# EAGLE library part 750341751 (library Midcom Inc - EAGLE Lib V2-0)
Package Style: PQ2625 Mounting: THT Pins: 7 pins Bobbin: 070-6032 Best pinouts for production vary per application. Please contact Wurth Electronics Midcom, Inc. for assistance with your custom design. Website: Wurth Electronics Midcom <http://www.we-online.com/midcom> Contact us Wurth Electronics Midcom, Inc. 121 Airport Dr. Watertown, SD 57201 Phone: (605) 886-4385 Fax: (605) 886-4486 E-Mail: midcom@we-online.com
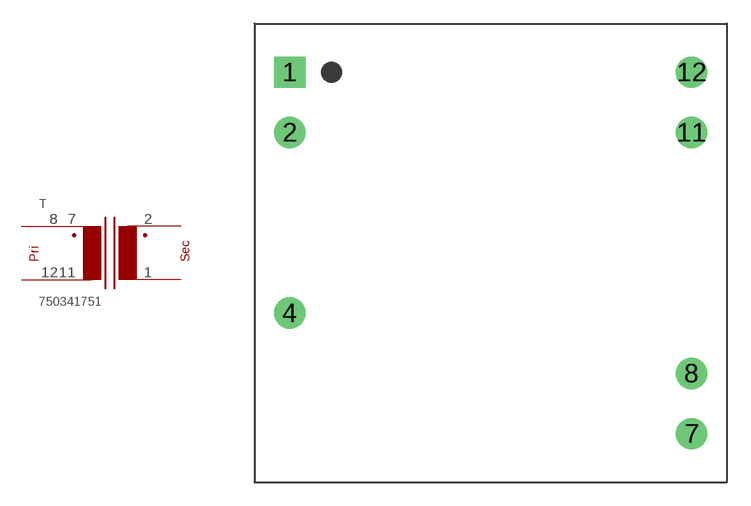
[diagram p145: symbol with the pads of PQ2625_THT_V_7PIN_(6032); footprint PQ2625_THT_V_7PIN_(6032)]

Designator prefix T

## 750341751  [PQ2625_THT_V_7PIN_(6032)]
1  1  pas
2  2  pas
7  7  pas
8  8  pas
11  11  pas
12  12  pas

## Footprint PQ2625_THT_V_7PIN_(6032) (pad centres in mm)
Package Style: PQ2625 Mounting: THT Pins: 12 Bobbin: 070-6032
drill 1.321 square: 1 -12.7,11.417
drill 1.321: 2 -12.7,7.607; 4 -12.7,-3.797; 7 12.7,-11.417; 8 12.7,-7.607; 11 12.7,7.607; 12 12.7,11.417